# Altium footprint library SON65P330X80-8N.PcbLib: 1 footprints
Each footprint in its own frame and in the unit in brackets; x right, y up, seen from the top. Pads: shape width x height; smd on the part's side, far side on the other; paste and mask are expansions set on the pad; w line width, h text height; cw(c..) or ccw(c..) is an arc to the next point about the centre after c.
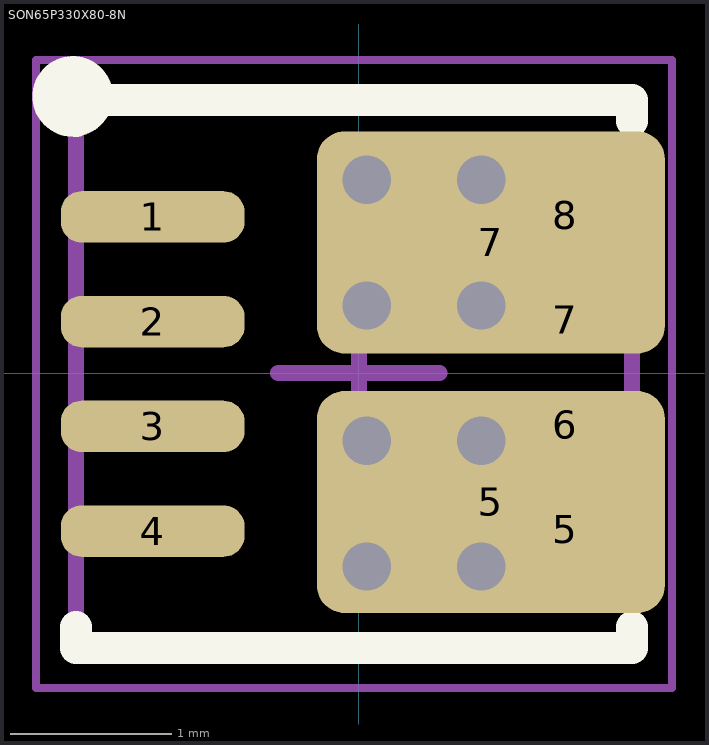
[diagram p0: the footprint, top view; thin cyan lines are the x and y axes]

## SON65P330X80-8N [mm] "SON, 8-Leads, Body 3.30x3.30mm, Pitch 0.65mm, IPC Medium Density"
height 0.8
pads (10):
  rrect80% 1.14x0.32 smd mask+0: 1(-1.28,0.97) 2(-1.28,0.32) 3(-1.28,-0.33) 4(-1.28,-0.98)
  rrect25% 2.16x1.38 smd paste-100 mask-100: 5(0.82,-0.8) 7(0.82,0.811)
  rrect50% 1.14x0.32 smd mask-100: 5(1.28,-0.969) 6(1.28,-0.319) 7(1.28,0.331) 8(1.28,0.981)
via 0.05,-0.42 diameter 0.5 hole 0.3
via 0.05,-1.2 diameter 0.5 hole 0.3
via 0.76,-0.42 diameter 0.5 hole 0.3
via 0.76,-1.2 diameter 0.5 hole 0.3
via 0.76,1.2 diameter 0.5 hole 0.3
via 0.76,0.42 diameter 0.5 hole 0.3
via 0.05,1.2 diameter 0.5 hole 0.3
via 0.05,0.42 diameter 0.5 hole 0.3
Top Layer:
  region: -0.08,-1.17
  region: -0.08,1.17
Top Overlay:
  circle w0.25: c-1.776,1.717 r0.125
  lines w0.2: -1.755,-1.575 -1.755,-1.706 1.687,-1.706 ; -1.755,1.565 -1.755,1.695 1.695,1.695 ; 0.24,-1.706 1.695,-1.706 1.695,-1.575 ; 0.24,1.695 1.695,1.695 ; 1.695,1.565 1.695,1.695
Top Solder:
  region: -0.21,-1.4 -0.21,-1.41 -0.202,-1.428 -0.188,-1.442 -0.17,-1.45 -0.16,-1.45 1.4,-1.45 1.41,-1.45 1.428,-1.442 1.442,-1.428 1.45,-1.41 1.45,-1.4 1.45,-1.19 1.451,-1.18 1.458,-1.162 1.472,-1.148 1.49,-1.141 1.5,-1.14 1.8,-1.14 1.81,-1.14 1.828,-1.132 1.842,-1.118 1.85,-1.1 1.85,-1.09 1.85,-0.87 1.85,-0.86 1.842,-0.842 1.828,-0.828 1.81,-0.82 1.8,-0.82 1.5,-0.82 1.49,-0.819 1.472,-0.812 1.458,-0.798 1.451,-0.78 1.45,-0.77 1.45,-0.54 1.451,-0.53 1.458,-0.512 1.472,-0.498 1.49,-0.491 1.5,-0.49 1.8,-0.49 1.81,-0.49 1.828,-0.482 1.842,-0.468 1.85,-0.45 1.85,-0.44 1.85,-0.22 1.85,-0.21 1.842,-0.192 1.828,-0.178 1.81,-0.17 1.8,-0.17 -0.16,-0.17 -0.17,-0.17 -0.188,-0.178 -0.202,-0.192 -0.21,-0.21 -0.21,-0.22
  region: -0.21,1.4 -0.21,1.41 -0.202,1.428 -0.188,1.442 -0.17,1.45 -0.16,1.45 1.4,1.45 1.41,1.45 1.428,1.442 1.442,1.428 1.45,1.41 1.45,1.4 1.45,1.19 1.451,1.18 1.458,1.162 1.472,1.148 1.49,1.141 1.5,1.14 1.8,1.14 1.81,1.14 1.828,1.132 1.842,1.118 1.85,1.1 1.85,1.09 1.85,0.87 1.85,0.86 1.842,0.842 1.828,0.828 1.81,0.82 1.8,0.82 1.5,0.82 1.49,0.819 1.472,0.812 1.458,0.798 1.451,0.78 1.45,0.77 1.45,0.54 1.451,0.53 1.458,0.512 1.472,0.498 1.49,0.491 1.5,0.49 1.8,0.49 1.81,0.49 1.828,0.482 1.842,0.468 1.85,0.45 1.85,0.44 1.85,0.22 1.85,0.21 1.842,0.192 1.828,0.178 1.81,0.17 1.8,0.17 -0.16,0.17 -0.17,0.17 -0.188,0.178 -0.202,0.192 -0.21,0.21 -0.21,0.22
  lines w0.01: 1.45,0.49 1.45,0.82
Mechanical 2:
  circle w0.1: c0.795,0.795 r0.5
  lines w0.1: -1.755,-1.706 -1.755,1.695 1.695,1.695 1.695,-1.706 -1.755,-1.706
Mechanical 4:
  lines w0.05: -2.005,-1.956 -2.005,1.944 1.945,1.944 1.945,-1.956 -2.005,-1.956
  lines w0.1: -0.5,0 0.5,0 ; 0,-0.5 0,0.5
3D body "User Library-TDFN-8-EP_3x3mm.step": height -1.7, standoff -2.7, extent -1.68,-1.68 1.68,1.68